# Altium schematic symbol library Black_Valkyrie.SCHLIB: 29 symbols
Pins are listed as number, name and electrical type; pins without a type are passive.

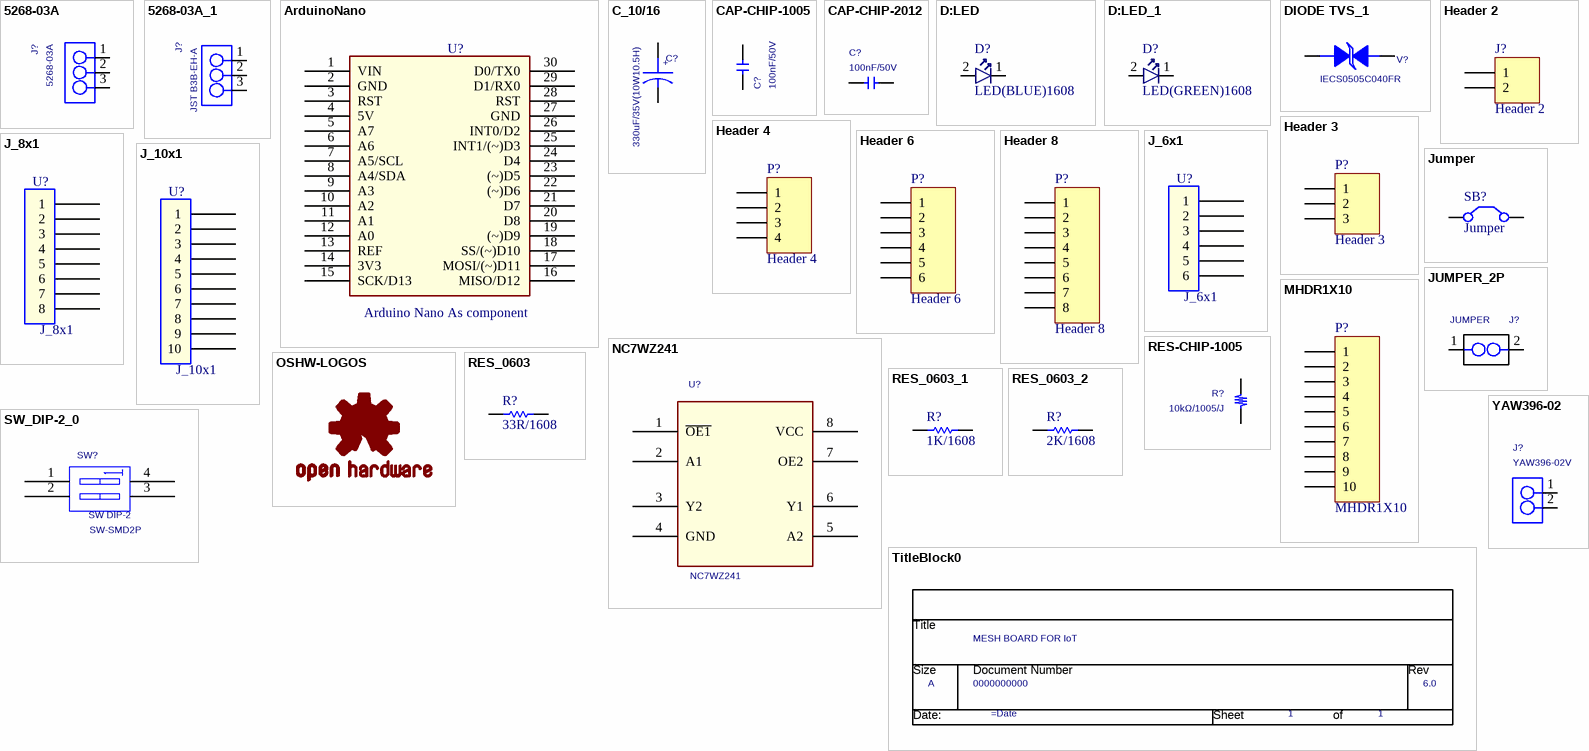
[diagram p0: symbols 5268-03A to YAW396-02]

## 5268-03A
designator J?
Value: 5268-03A
footprint 5267-03
pins: 1, 2, 3

## 5268-03A_1
designator J?, comment JST B3B-EH-A
Value: JST B3B-EH-A
footprint JST_B3B-EH-A (2.5mm pitch)
pins: 1, 2, 3

## ArduinoNano
designator U?, comment Arduino Nano As component
footprint Arduino_Nano_Board (Nano Board as Component)
pins: 1 VIN, 2 GND, 3 RST, 4 5V, 5 A7, 6 A6, 7 A5/SCL, 8 A4/SDA, 9 A3, 10 A2, 11 A1, 12 A0, 13 REF, 14 3V3, 15 SCK/D13, 16 MISO/D12, 17 MOSI/(~)D11, 18 SS/(~)D10, 19 (~)D9, 20 D8, 21 D7, 22 (~)D6, 23 (~)D5, 24 D4, 25 INT1/(~)D3, 26 INT0/D2, 27 GND, 28 RST, 29 D1/RX0, 30 D0/TX0

## C_10/16
designator C?, comment 330uF/35V(10W10.5H)
PCB PartLoc: MM,59.125,55,90,1; PCB RefLoc: MM,7.625,-5.625,180,CC,1.2,1,0.12,std,1; Value: 330uF/35V(10W10.5H)
footprint SMD-C(10.0)
pins: 1, 2
text: +

## CAP-CHIP-1005
designator C?  value 100nF/50V  (hidden comment: CAP-CHIP-1005)
PCB DECAL: 1005; size: 1005
footprint CAPC1608X06L
footprint CAPC2012X00L
pins: 1, 2

## CAP-CHIP-2012
designator C?  value 100nF/50V  (hidden comment: CAP-CHIP-2012)
PCB DECAL: 1005; size: 1005
footprint CAPC1608X06L
footprint CAPC2012X00L
pins: 1, 2

## D:LED
designator D?, comment LED(BLUE)1608
LED SMARTLED GREEN 570NM 0603; Value: LED(BLUE)1608
footprint LED2012-LJS
pins: 1 C, 2 A

## D:LED_1
designator D?, comment LED(GREEN)1608
LED SMARTLED GREEN 570NM 0603; Value: LED(GREEN)1608
footprint LED2012-LJS
pins: 1 C, 2 A

## DIODE TVS_1
designator V?, comment IECS0505C040FR
footprint RESC1608X06L
footprint RESC2012X00L
pins: 1 ANODE, 2 CATHODE

## Header 2
designator J?
Header, 2-Pin; LatestRevisionDate: 17-Jul-2002; LatestRevisionNote: Re-released for DXP Platform.; Publisher: Altium Limited
signal-integrity model Connector
footprint BLOCK-5.08MMX2P
pins: 1, 2

## Header 3
designator P?
Header, 3-Pin; LatestRevisionDate: 17-Jul-2002; LatestRevisionNote: Re-released for DXP Platform.; Publisher: Altium Limited
footprint HDR1X3 (Connector; Header; 3 Position)
signal-integrity model Connector
pins: 1, 2, 3

## Header 4
designator P?
Header, 4-Pin; LatestRevisionDate: 17-Jul-2002; LatestRevisionNote: Re-released for DXP Platform.; Publisher: Altium Limited
footprint HDR1X4 (Connector; Header; 4 Position)
signal-integrity model Connector
pins: 1, 2, 3, 4

## Header 6
designator P?
Header, 6-Pin; LatestRevisionDate: 17-Jul-2002; LatestRevisionNote: Re-released for DXP Platform.; Publisher: Altium Limited
footprint HDR1X6 (Connector; Header; 6 Position)
signal-integrity model Connector
pins: 1, 2, 3, 4, 5, 6

## Header 8
designator P?
Header, 8-Pin; LatestRevisionDate: 17-Jul-2002; LatestRevisionNote: Re-released for DXP Platform.; Publisher: Altium Limited
footprint HDR1X8 (Connector; Header; 8 Position)
signal-integrity model Connector
pins: 1, 2, 3, 4, 5, 6, 7, 8

## J_6x1
designator U?
PCB Footprint: J_6x1
footprint J_6x1
pins: 1, 2, 3, 4, 5, 6

## J_8x1
designator U?
PCB Footprint: J_8x1
footprint J_8x1
pins: 1, 2, 3, 4, 5, 6, 7, 8

## J_10x1
designator U?
PCB Footprint: J_10x1
footprint J_10x1
pins: 1, 2, 3, 4, 5, 6, 7, 8, 9, 10

## Jumper
designator SB?
Jumper Wire; Published: 24-Mar-1999; LatestRevisionDate: 17-Jul-2002; LatestRevisionNote: Re-released for DXP Platform.; PackageReference: RAD-0.2; Publisher: Altium Limited; PackageDescription: Radial Cap, Thru-Hole; 2 Leads; 0.2 in Pin Spacing
footprint Solderbridge_3pi
pins: 1 C1, 2 C2

## JUMPER_2P
designator J?, comment JUMPER
PCB DECAL: 5267-03
footprint HDR1X2 (Connector; Header; 2 Position)
pins: 1, 2

## MHDR1X10
designator P?
Header, 10-Pin; LatestRevisionDate: 17-Jul-2002; LatestRevisionNote: Re-released for DXP Platform.; Publisher: Altium Limited
signal-integrity model Connector
footprint HDR1X10 (Connector; Header; 10 Position)
pins: 1, 2, 3, 4, 5, 6, 7, 8, 9, 10

## NC7WZ241
designator U?
Value: NC7WZ241
footprint MO-187_0.5_2.0X3.1
pins: 1 ~{OE1}, 2 A1, 3 Y2, 4 GND, 5 A2, 6 Y1, 7 OE2, 8 VCC

## OSHW-LOGOS
designator LOGO?  (value not drawn)
Open Source Hardware Logo This logo indicates the piece of hardware it is found on incorporates a OSHW license and/or adheres to the definition of open source hardware found here: http://freedomdefined.org/OSHW

## RES-CHIP-1005
designator R?  value 10kΩ/1005/J  (hidden comment: RES-CHIP-1005)
PCB DECAL: 1005; size: 1005
footprint RESC1608X06L
footprint RESC2012X00L
pins: 1, 2

## RES_0603
designator R?, comment 33R/1608
Not mounted; Value: 33R/1608
footprint RESC1608X06L
footprint RESC2012X00L
pins: 1, 2

## RES_0603_1
designator R?, comment 1K/1608
Not mounted; Value: 1K/1608
footprint RESC1608X06L
footprint RESC2012X00L
pins: 1, 2

## RES_0603_2
designator R?, comment 2K/1608
Not mounted; Value: 2K/1608
footprint RESC1608X06L
footprint RESC2012X00L
pins: 1, 2

## SW_DIP-2_0
designator SW?  value SW DIP-2  PCB DECAL: SW-SMD2P  (hidden comment: SW_DIP-2_0)
Source_Path: \\192.168.10.135\STAFF2\I13-0002_EM-IMX6\TRUNK\HW\SCH\EM-IMX6-CORE-V10R0(130225).DSN
footprint SW-SMD2P
pins: 1 A1, 2 A2, 3 B2, 4 B1

## TitleBlock0
designator *?  Page Count: 1  Page Size: A  Title: MESH BOARD FOR IoT  RevCode: 6.0  Doc: 0000000000  (hidden comment: TitleBlock0)  (graphical)
Page Create Date: March  8, 1995; Page Number: 1; Page Modify Date: =Date
text: Title; Size; Document Number; Rev; Date:; Sheet; of

## YAW396-02
designator J?  value YAW396-02V  (hidden comment: YAW396-02)
PCB DECAL: YAW396-02V
footprint YAW396-02V
footprint NW-VH3.96-2A
pins: 1, 2